# Altium footprint library PCBlib1.PcbLib: 21 footprints (part 2 of 2)
Each footprint in its own frame and in the unit in brackets; x right, y up, seen from the top. Pads: shape width x height; smd on the part's side, far side on the other; paste and mask are expansions set on the pad; w line width, h text height; cw(c..) or ccw(c..) is an arc to the next point about the centre after c.
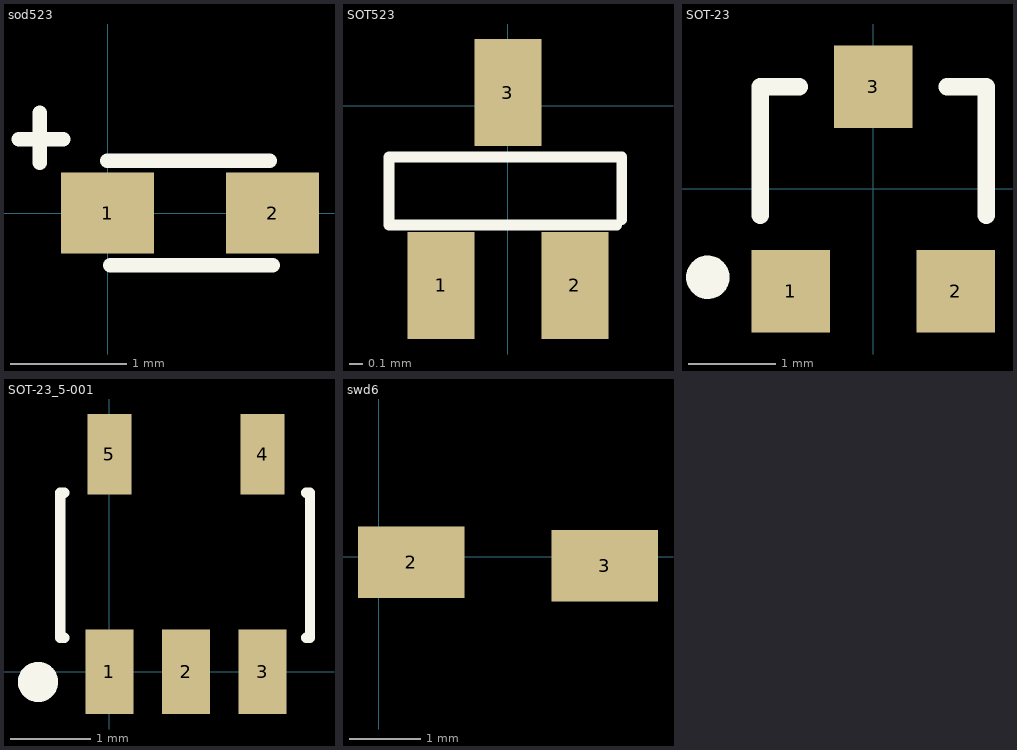
[diagram p1: the footprints below, top view; thin cyan lines are the x and y axes]

## sod523 [mm]
height 0.55
pads (2):
  rect 0.8x0.7 smd: 1(0,0) 2(1.42,0)
Top Overlay:
  lines w0.127: -0.762,0.635 -0.381,0.635 ; -0.584,0.432 -0.584,0.66 -0.584,0.864 ; 0,0.45 1.397,0.45 ; 0.023,-0.45 1.42,-0.45

## SOT523 [mm]
height 0.55
pads (3):
  rect 0.5x0.8 smd: 1(-0.5,-1.34) 2(0.5,-1.34) 3(0,0.1)
Top Overlay:
  lines w0.08: -0.508,-0.889 0.811,-0.889 -0.889,-0.889 -0.889,-0.381 0.85,-0.381 0.85,-0.85

## SOT-23 [mm]
height 1.1
pads (3):
  rect 0.9x0.95 smd: 1(-0.95,-1.175) 2(0.95,-1.175) 3(0,1.175)
Top Overlay:
  circle w0.25: c-1.903,-1.016 r0.125
  lines w0.2: -1.3,-0.3 -1.3,1.175 -0.85,1.175 ; 0.85,1.175 1.3,1.175 1.3,-0.3

## SOT-23_5-001 [mm]
height 1.45
pads (5):
  rect 0.6x1.05 smd: 1(0,0) 2(0.95,0) 3(1.9,0)
  rect 0.55x1 smd: 4(1.9,2.7) 5(0,2.7)
Top Overlay:
  circle w0.25: c-0.887,-0.127 r0.125
  lines w0.127: -0.56,0.421 -0.61,0.421 -0.61,2.221 -0.56,2.221 ; 2.44,0.421 2.49,0.421 2.49,2.221 2.44,2.221
3D body: height 1.09, standoff -0.01, extent -0.486,-0.003 2.413,2.797

## swd6 [mm]
height 0.55
pads (2):
  rect 1.5x1 smd: 2(0.457,-0.076) 3(3.175,-0.127)